# EAGLE library part LIS3DH (library imu)
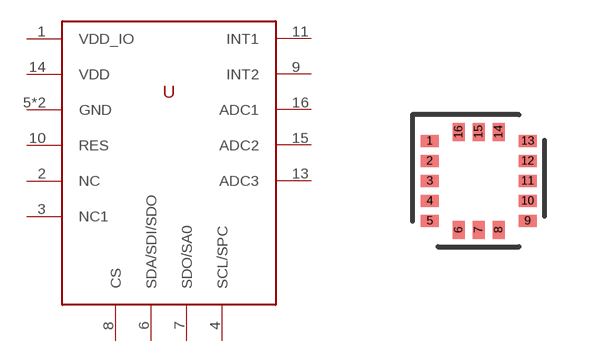
[diagram p1: symbol with the pads of 16-LGA-3X3; footprint 16-LGA-3X3]

Designator prefix -

## LIS3DH (DIGIKEY: LIS3DH)  [16-LGA-3X3]
1  VDD_IO
2  NC
3  NC1
4  SCL/SPC
5  GND
6  SDA/SDI/SDO
7  SDO/SA0
8  CS
9  INT2
10  RES
11  INT1
12  GND
13  ADC3
14  VDD
15  ADC2
16  ADC1

## Footprint 16-LGA-3X3 (pad centres in mm)
smd 0.45 x 0.3: 1 -1.225,1; 2 -1.225,0.5; 3 -1.225,0; 4 -1.225,-0.5; 5 -1.225,-1; 9 1.225,-1; 10 1.225,-0.5; 11 1.225,0; 12 1.225,0.5; 13 1.225,1
smd 0.3 x 0.45: 6 -0.5,-1.225; 7 0,-1.225; 8 0.5,-1.225; 14 0.5,1.225; 15 0,1.225; 16 -0.5,1.225